# Altium integrated library ADP2302A.IntLib: 1 symbol
Pins are listed as number, name and electrical type; pins without a type are passive.

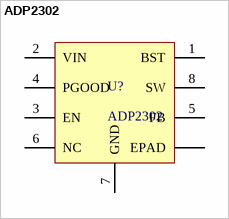
[diagram p0: symbol ADP2302]

## ADP2302
designator U?
Supplier 1: Farnell; Supplier 2: Digi-Key; Supplier 3: Maouser; Supplier Part Number 3: 584-ADP2302ARDZ5.0R7; Supplier Part Number 2: ADP2302ARDZ-5.0-R7TR-ND; Supplier Part Number 1: *
footprint SOP127P600-8N
footprint SOP127P600-8N
footprint SOP127P600-8N
pins: 1 BST, 2 VIN, 3 EN, 4 PGOOD, 5 FB, 6 NC, 7 GND, 8 SW, 9 EPAD